# Altium footprint library 二极管.PcbLib: 21 footprints (part 2 of 2)
Each footprint in its own frame and in the unit in brackets; x right, y up, seen from the top. Pads: shape width x height; smd on the part's side, far side on the other; paste and mask are expansions set on the pad; w line width, h text height; cw(c..) or ccw(c..) is an arc to the next point about the centre after c.
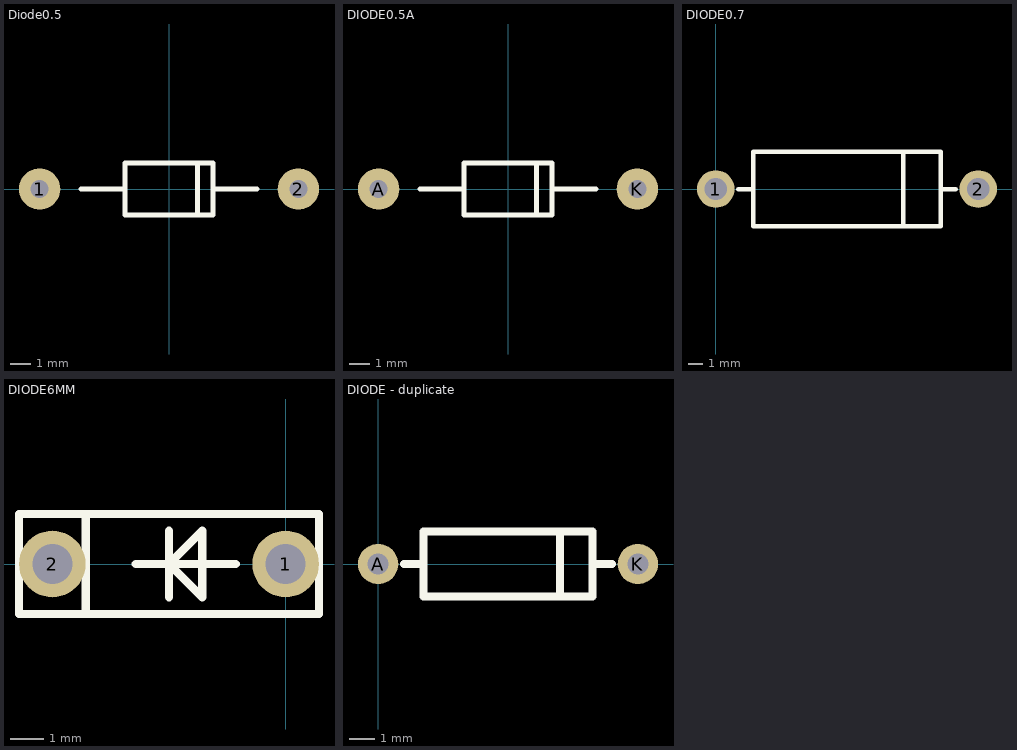
[diagram p1: the footprints below, top view; thin cyan lines are the x and y axes]

## Diode0.5 [mil]
pads (2):
  round 80 hole 35: 1(-250,0) 2(250,0)
Top Overlay:
  lines w10: -170,0 -85,0 ; 55,-50 55,50 ; 85,0 170,0 ; -85,0 -85,50 85,50 85,-50 -85,-50 -85,0

## DIODE0.5A [mil]
pads (2):
  round 80 hole 35: A(-250,0) K(250,0)
Top Overlay:
  lines w10: -170,0 -85,0 ; 55,-50 55,50 ; 85,0 170,0 ; -85,0 -85,-50 85,-50 85,50 -85,50 -85,0

## DIODE0.7 [mm]
pads (2):
  round 2.54 hole 1.5: 1(0,0) 2(17.78,0)
Top Overlay:
  lines w0.305: 1.524,0 2.54,0 ; 12.7,-2.54 12.7,2.54 ; 15.24,0 16.256,0 ; 2.54,-2.54 15.24,-2.54 15.24,2.54 2.54,2.54 2.54,-2.54

## DIODE6MM [mm]
pads (2):
  round 2 hole 1.2: 1(0,0) 2(-7,0)
Top Overlay:
  lines w0.254: -6,-1.5 -6,1.5 ; -4.5,0 -1.5,0 ; -3.5,-1 -3.5,1 ; -8,-1.5 1,-1.5 1,1.5 -8,1.5 -8,-1.5 ; -3.5,0 -2.5,1 -2.5,-1 -3.5,0

## DIODE - duplicate [mil]
pads (2):
  round 62 hole 32: A(0,0) K(400,0)
Top Overlay:
  lines w12: 40,0 70,0 ; 280,-50 280,50 ; 330,0 360,0 ; 70,-50 330,-50 330,50 70,50 70,-50